# EAGLE library part ADS7841 (library TI)
12-Bit, 4-Channel Serial Output Sampling Analog-to-Digital Converter
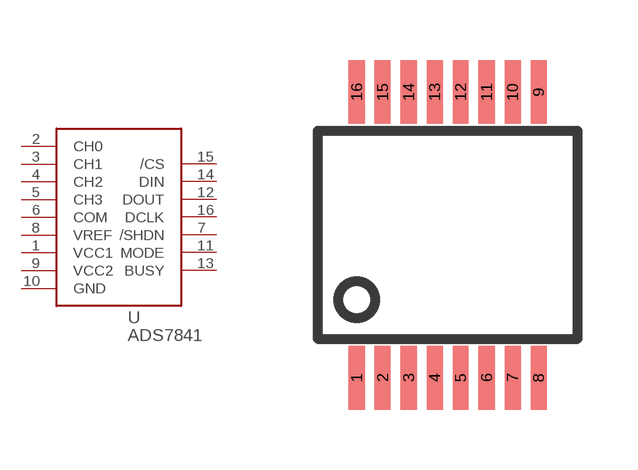
[diagram p18: symbol with the pads of SSOP-16; footprint SSOP-16]

Designator prefix -

## ADS7841  [SSOP-16]
1  VCC1
2  CH0
3  CH1
4  CH2
5  CH3
6  COM
7  /SHDN
8  VREF
9  VCC2
10  GND
11  MODE
12  DOUT
13  BUSY
14  DIN
15  /CS
16  DCLK

## Footprint SSOP-16 (pad centres in mm)
smd 0.4 x 1.6: 1 -2.529,-3.575; 2 -1.879,-3.575; 3 -1.229,-3.575; 4 -0.579,-3.575; 5 0.071,-3.575; 6 0.721,-3.575; 7 1.371,-3.575; 8 2.021,-3.575; 9 2.021,3.575; 10 1.371,3.575; 11 0.721,3.575; 12 0.071,3.575; 13 -0.579,3.575; 14 -1.229,3.575; 15 -1.879,3.575; 16 -2.529,3.575